# Altium schematic symbol library STM32F415RGT6.SchLib: 1 symbol
Pins are listed as number, name and electrical type; pins without a type are passive.

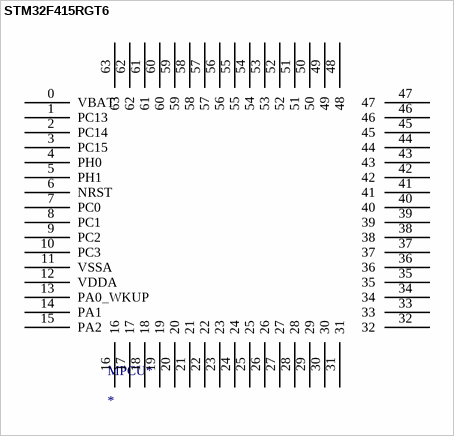
[diagram p0: symbol STM32F415RGT6]

## STM32F415RGT6
designator MPCU*
pins: 0 VBAT, 1 PC13, 2 PC14, 3 PC15, 4 PH0, 5 PH1, 6 NRST, 7 PC0, 8 PC1, 9 PC2, 10 PC3, 11 VSSA, 12 VDDA, 13 PA0_WKUP, 14 PA1, 15 PA2, 16, 17, 18, 19, 20, 21, 22, 23, 24, 25, 26, 27, 28, 29, 30, 31, 32, 33, 34, 35, 36, 37, 38, 39, 40, 41, 42, 43, 44, 45, 46, 47, 48, 49, 50, 51, 52, 53, 54, 55, 56, 57, 58, 59, 60, 61, 62, 63